# EAGLE library part SST25VF032B (library microLib)
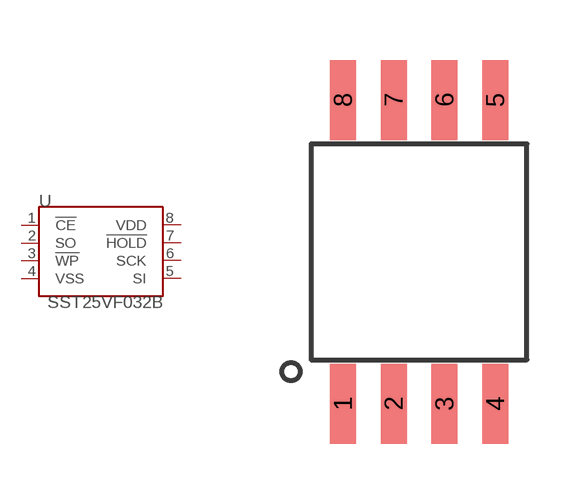
[diagram p29: symbol with the pads of SOIC_8; footprint SOIC_8]

Designator prefix -

## SST25VF032B  [SOIC_8]
1  !CE!
2  SO
3  !WP!
4  VSS
5  SI
6  SCK
7  !HOLD!
8  VDD

## Footprint SOIC_8 (pad centres in mm)
smd 0.65 x 2: 1 -1.905,-3.8; 2 -0.635,-3.8; 3 0.635,-3.8; 4 1.905,-3.8; 5 1.905,3.8; 6 0.635,3.8; 7 -0.635,3.8; 8 -1.905,3.8